# EAGLE library part L14P (library con-amp-mt)
AMP MT CONNECTOR
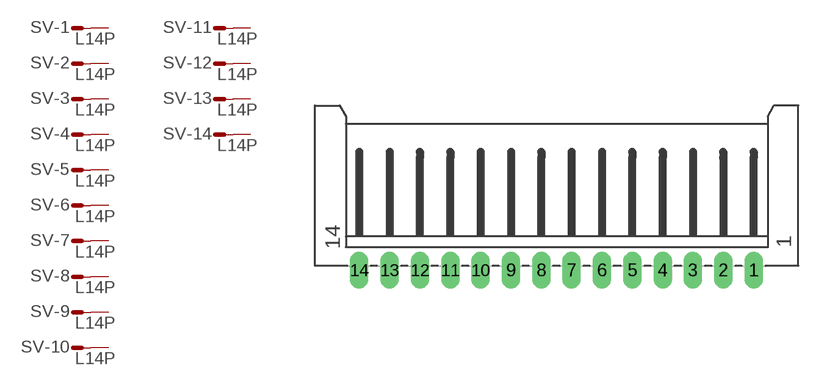
[diagram p8: symbol with the pads of L14P; footprint L14P]

Designator prefix SV; gates -1=M -2=M -3=M -4=M -5=M -6=M -7=M -8=M -9=M -10=M -11=M -12=M -13=M -14=M

## L14P (OC_FARNELL: unknown; OC_NEWARK: unknown)  [L14P]
1  -1:S  pas
2  -2:S  pas
3  -3:S  pas
4  -4:S  pas
5  -5:S  pas
6  -6:S  pas
7  -7:S  pas
8  -8:S  pas
9  -9:S  pas
10  -10:S  pas
11  -11:S  pas
12  -12:S  pas
13  -13:S  pas
14  -14:S  pas

## Footprint L14P (pad centres in mm)
AMP MT CONNECTOR
drill 1.016 long: 1 16.25,-6.25; 2 13.75,-6.25; 3 11.25,-6.25; 4 8.75,-6.25; 5 6.25,-6.25; 6 3.75,-6.25; 7 1.25,-6.25; 8 -1.25,-6.25; 9 -3.75,-6.25; 10 -6.25,-6.25; 11 -8.75,-6.25; 12 -11.25,-6.25; 13 -13.75,-6.25; 14 -16.25,-6.25